# EAGLE library part TC2050 (library tag-connect)
TC2030 pad no. Function STLink v3 CN1 pin no. Function 1 Reserved (1) 2 Reserved (1) 1 T_Vcc 3 T_Vcc (2) 2 T_JTMS 4 T_JTMS/T_SWDIO 3 5 GND 4 T_JCLK 6 T_JCLK / T_SWCLK 5 GND 7 GND 6 T_JTDO 8 T_JTDO / T_SWO (3) 7 T_JRCLK 9 T_JRCLK (4) / NC (5) 8 T_JTDI 10 T_JTDI / NC (5) 9 GND 11 GNDDetect (6) 10 T_NRST 12 T_NRST 13 T_VCP_RX (7) 14 T_VCP_TX (2) (1) Do not connect to the target (2) Input for STLINK-V3SET (3) SWO is optional, required only for Serial Wire Viewer (SWV) trace (4) Optional loopback of T_JCLK on the target side, required if loopback is removed on the STLINK-V3SET side (5) NC means not required for the SWD connection (6) Tied to GND by STLINK-V3SET firmware; may be used by the target for detection of the tool (7) Output for STLINK-V3SET
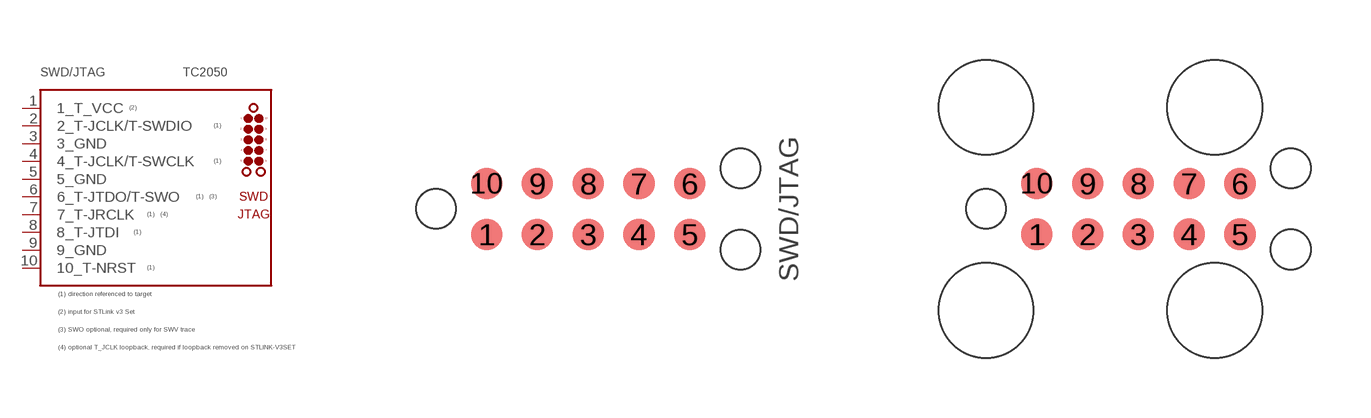
[diagram p1: symbol with the pads of TC2050-NL; footprints TC2050-NL, TC2050]

Designator prefix SWD/JTAG

## TC2050  [TC2050-NL]
1  1_T_VCC  pwr
2  2_T-JCLK/T-SWDIO
3  3_GND  pwr
4  4_T-JCLK/T-SWCLK
5  5_GND  pwr
6  6_T-JTDO/T-SWO  in
7  7_T-JRCLK
8  8_T-JTDI  out
9  9_GND  pwr
10  10_T-NRST

## TC2050TC2050  [TC2050]
Pads as for TC2050-NL

## Footprint TC2050-NL (pad centres in mm)
smd 0.787 x 0.787: 1 -2.54,-0.635; 2 -1.27,-0.635; 3 0,-0.635; 4 1.27,-0.635; 5 2.54,-0.635; 6 2.54,0.635; 7 1.27,0.635; 8 0,0.635; 9 -1.27,0.635; 10 -2.54,0.635
hole 0.991 at -3.81,0
hole 0.991 at 3.81,-1.016
hole 0.991 at 3.81,1.016

## Footprint TC2050 (pad centres in mm)
smd 0.787 x 0.787: 1 1.27,-0.635; 2 2.54,-0.635; 3 3.81,-0.635; 4 5.08,-0.635; 5 6.35,-0.635; 6 6.35,0.635; 7 5.08,0.635; 8 3.81,0.635; 9 2.54,0.635; 10 1.27,0.635
hole 0.991 at 0,0
hole 0.991 at 7.62,-1.016
hole 0.991 at 7.62,1.016
hole 2.375 at 0,2.54
hole 2.375 at 0,-2.54
hole 2.375 at 5.715,2.54
hole 2.375 at 5.715,-2.54